# EAGLE library part SLG4658* (library mylib)
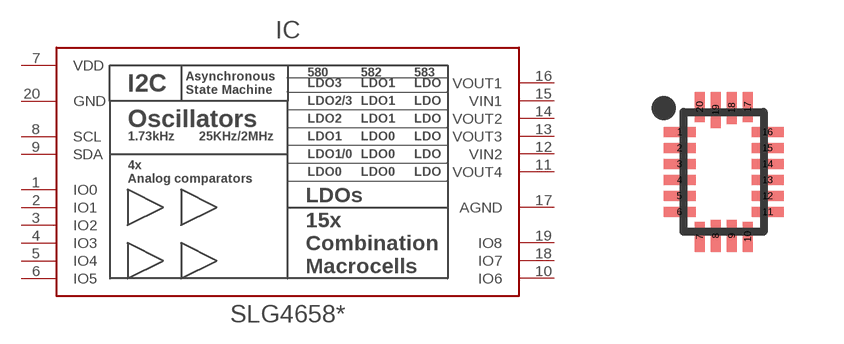
[diagram p132: symbol with the pads of STQFN20-0.4P2.0X3.0; footprint STQFN20-0.4P2.0X3.0]

Designator prefix IC

## SLG46580GTR, SLG46582GTR, SLG46583GTR  [STQFN20-0.4P2.0X3.0]
1  IO0
2  IO1
3  IO2
4  IO3
5  IO4
6  IO5
7  VDD  pwr
8  SCL
9  SDA
10  IO6
11  VOUT4  pwr
12  VIN2  pwr
13  VOUT3  pwr
14  VOUT2  pwr
15  VIN1  pwr
16  VOUT1  pwr
17  AGND  pwr
18  IO7
19  IO8
20  GND  pwr

## Footprint STQFN20-0.4P2.0X3.0 (pad centres in mm)
smd 0.8 x 0.25: 1 -1.1,1; 2 -1.1,0.6; 3 -1.1,0.2; 4 -1.1,-0.2; 5 -1.1,-0.6; 6 -1.1,-1; 11 1.1,-1; 12 1.1,-0.6; 13 1.1,-0.2; 14 1.1,0.2; 15 1.1,0.6; 16 1.1,1
smd 0.25 x 0.75: 7 -0.6,-1.625; 10 0.6,-1.625; 17 0.6,1.625; 20 -0.6,1.625
smd 0.25 x 0.8: 8 -0.2,-1.6; 9 0.2,-1.6; 18 0.2,1.6
smd 0.25 x 0.9: 19 -0.2,1.55